# Altium footprint library C2Sv0.1.PcbLib: 19 footprints (part 1 of 2)
Each footprint in its own frame and in the unit in brackets; x right, y up, seen from the top. Pads: shape width x height; smd on the part's side, far side on the other; paste and mask are expansions set on the pad; w line width, h text height; cw(c..) or ccw(c..) is an arc to the next point about the centre after c.
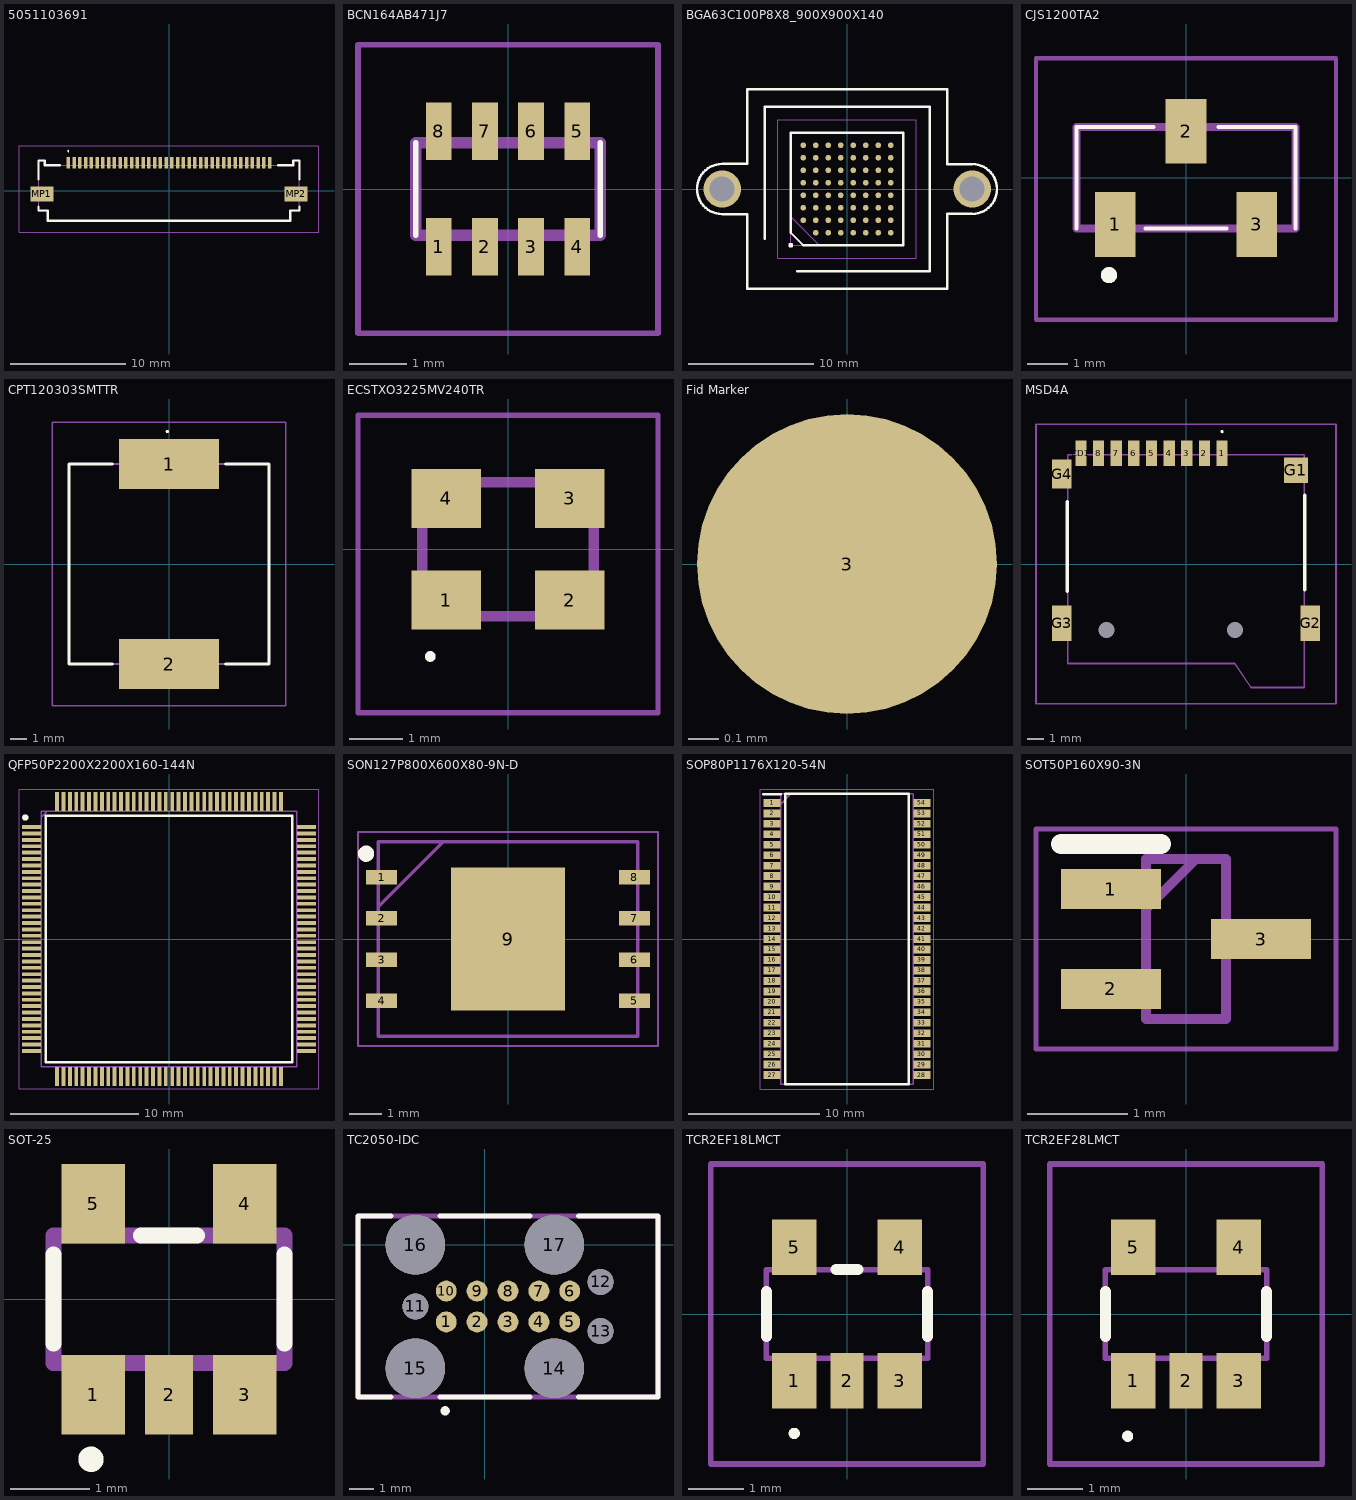
[diagram p0: the footprints below, top view; thin cyan lines are the x and y axes]

## 5051103691 [mm]
pads (38):
  rect 0.3x1 smd mask+0.051: 1(-8.75,2.425) 2(-8.25,2.425) 3(-7.75,2.425) 4(-7.25,2.425) 5(-6.75,2.425) 6(-6.25,2.425) 7(-5.75,2.425) 8(-5.25,2.425) 9(-4.75,2.425) 10(-4.25,2.425) 11(-3.75,2.425) 12(-3.25,2.425) 13(-2.75,2.425) 14(-2.25,2.425) 15(-1.75,2.425) 16(-1.25,2.425) 17(-0.75,2.425) 18(-0.25,2.425) 19(0.25,2.425) 20(0.75,2.425) 21(1.25,2.425) 22(1.75,2.425) 23(2.25,2.425) 24(2.75,2.425) 25(3.25,2.425) 26(3.75,2.425) 27(4.25,2.425) 28(4.75,2.425) 29(5.25,2.425) 30(5.75,2.425) 31(6.25,2.425) 32(6.75,2.425) 33(7.25,2.425) 34(7.75,2.425) 35(8.25,2.425) 36(8.75,2.425)
  rect 2x1.3 smd: MP1(-11.05,-0.275) MP2(11.05,-0.275)
Top Overlay:
  lines w0.1: -8.75,3.4 ccw(c-8.75,3.45) -8.75,3.5 ccw(c-8.75,3.45) -8.75,3.4
  lines w0.2: -11.35,-1.4 -11.35,-1.725 -10.55,-1.725 -10.55,-2.625 10.55,-2.625 10.55,-1.725 11.35,-1.725 11.35,-1.4 ; -11.35,1 -11.35,2.625 -10.8,2.625 -10.8,2.225 -9.5,2.225 ; 9.5,2.225 10.8,2.225 10.8,2.625 11.35,2.625 11.35,1
Mechanical 13:
  lines w0.1: -11.35,-1.725 -11.35,2.625 -10.8,2.625 -10.8,2.225 10.8,2.225 10.8,2.625 11.35,2.625 11.35,-1.725 10.55,-1.725 10.55,-2.625 0,-2.625 -10.55,-2.625 -10.55,-1.725 -11.35,-1.725
Mechanical 15:
  lines w0.1: -13.05,-3.625 13.05,-3.625 13.05,3.925 -13.05,3.925 -13.05,-3.625
3D body "505110-3691.stp": height 1.9, standoff 0, extent -11.75,-2.65 11.75,2.65

## BCN164AB471J7 [mm]
pads (8):
  rect 0.45x1 smd: 1(-1.2,-1) 2(-0.4,-1) 3(0.4,-1) 4(1.2,-1) 5(1.2,1) 6(0.4,1) 7(-0.4,1) 8(-1.2,1)
Top Overlay:
  lines w0.1: -1.6,-0.8 -1.6,0.8 ; 1.6,-0.8 1.6,0.8
Mechanical 13:
  lines w0.2: -1.6,-0.8 1.6,-0.8 1.6,0.8 -1.6,0.8 -1.6,-0.8
Mechanical 15:
  lines w0.1: -2.6,-2.5 2.6,-2.5 2.6,2.5 -2.6,2.5 -2.6,-2.5
3D body "BCN164AB471J7.stp": height 0.7, standoff 0, extent -1.6,-1.455 1.6,1.455

## BGA63C100P8X8_900X900X140 [mm]
pads (63):
  round 0.45 smd: A2(-3.5,-2.5) A3(-3.5,-1.5) A4(-3.5,-0.5) A5(-3.5,0.5) A6(-3.5,1.5) A7(-3.5,2.5) A8(-3.5,3.5) B1(-2.5,-3.5) B2(-2.5,-2.5) B3(-2.5,-1.5) B4(-2.5,-0.5) B5(-2.5,0.5) B6(-2.5,1.5) B7(-2.5,2.5) B8(-2.5,3.5) C1(-1.5,-3.5) C2(-1.5,-2.5) C3(-1.5,-1.5) C4(-1.5,-0.5) C5(-1.5,0.5) C6(-1.5,1.5) C7(-1.5,2.5) C8(-1.5,3.5) D1(-0.5,-3.5) D2(-0.5,-2.5) D3(-0.5,-1.5) D4(-0.5,-0.5) D5(-0.5,0.5) D6(-0.5,1.5) D7(-0.5,2.5) D8(-0.5,3.5) E1(0.5,-3.5) E2(0.5,-2.5) E3(0.5,-1.5) E4(0.5,-0.5) E5(0.5,0.5) E6(0.5,1.5) E7(0.5,2.5) E8(0.5,3.5) F1(1.5,-3.5) F2(1.5,-2.5) F3(1.5,-1.5) F4(1.5,-0.5) F5(1.5,0.5) F6(1.5,1.5) F7(1.5,2.5) F8(1.5,3.5) G1(2.5,-3.5) G2(2.5,-2.5) G3(2.5,-1.5) G4(2.5,-0.5) G5(2.5,0.5) G6(2.5,1.5) G7(2.5,2.5) G8(2.5,3.5) H1(3.5,-3.5) H2(3.5,-2.5) H3(3.5,-1.5) H4(3.5,-0.5) H5(3.5,0.5) H6(3.5,1.5) H7(3.5,2.5) H8(3.5,3.5)
via -10,0 diameter 3 hole 2
via 10,0 diameter 3 hole 2
Top Overlay:
  circle w0.2: c-4.5,-4.5 r0.1
  lines w0.2: -6.6,-4 -6.6,6.6 6.6,6.6 6.6,-6.6 -4,-6.6 ; 8,-2 10,-2 ccw(c10,0) 10,2 8,2 ; 8,-2 8,-2 ; 8,-2 8,-8 -8,-8 -8,-2 -10,-2 cw(c-10,0) -10,2 -8,2 -8,8 8,8 8,2 ; 8,2 8,2 ; -4.5,-3.5 -4.5,4.5 4.5,4.5 4.5,-4.5 -3.5,-4.5 -4.5,-3.5
Mechanical 13:
  lines w0.1: -4.5,-2.23 -2.23,-4.5 ; -4.5,-4.5 -4.5,4.5 4.5,4.5 4.5,-4.5 -4.5,-4.5
Mechanical 15:
  lines w0.05: -5.54,-5.54 -5.54,5.54 5.54,5.54 5.54,-5.54 -5.54,-5.54
3D body "AR0141IRSH00SUEA0-DR.stp": height 1.4, standoff 0, extent -4.5,-4.5 4.5,4.5

## CJS1200TA2 [mm]
pads (3):
  rect 1x1.6 smd: 1(-1.75,-1.15) 2(0,1.15) 3(1.75,-1.15)
Top Overlay:
  lines w0.1: -2.7,-1.25 -2.7,1.25 -0.8,1.25 ; -1,-1.25 1,-1.25 ; 0.8,1.25 2.7,1.25 2.7,-1.25
  lines w0.2: -2,-2.4 cw(c-1.9,-2.4) -1.8,-2.4 cw(c-1.9,-2.4) -2,-2.4
Mechanical 13:
  lines w0.2: -2.7,-1.25 -2.7,1.25 2.7,1.25 2.7,-1.25 -2.7,-1.25
Mechanical 15:
  lines w0.1: -3.7,-3.5 -3.7,2.95 3.7,2.95 3.7,-3.5 -3.7,-3.5
3D body "CJS-1200TA2.stp": height 2.52, standoff 0, extent -2.7,-1.4 2.7,1.4

## CPT120303SMTTR [mm]
pads (2):
  rect 6x3 smd: 1(0,6) 2(0,-6)
Top Overlay:
  lines w0.1: -0.1,7.9 ccw(c-0.1,7.95) -0.1,8 ccw(c-0.1,7.95) -0.1,7.9
  lines w0.2: -3.4,-6 -6,-6 -6,6 -3.4,6 ; 3.4,-6 6,-6 6,6 3.4,6
Mechanical 13:
  lines w0.1: -6,-6 6,-6 6,6 -6,6 -6,-6
Mechanical 15:
  lines w0.1: -7,-8.5 7,-8.5 7,8.5 -7,8.5 -7,-8.5
3D body "CPT-1203-03-SMT-TR.stp": height 3.51, standoff 0, extent -6.25,-6.26 6.25,6.26

## ECSTXO3225MV240TR [mm]
pads (4):
  rect 1.3x1.1 smd: 1(-1.15,-0.95) 2(1.15,-0.95) 3(1.15,0.95) 4(-1.15,0.95)
Top Overlay:
  lines w0.1: -1.5,-2 ccw(c-1.45,-2) -1.4,-2 ccw(c-1.45,-2) -1.5,-2
Mechanical 13:
  lines w0.2: -1.6,-1.25 1.6,-1.25 1.6,1.25 -1.6,1.25 -1.6,-1.25
Mechanical 15:
  lines w0.1: -2.8,-3.05 2.8,-3.05 2.8,2.5 -2.8,2.5 -2.8,-3.05
3D body "ECS-TXO-3225MV-240-TR.stp": height 1.3, standoff 0, extent -1.69,-1.39 1.69,1.39

## Fid Marker [mm]
pads (1):
  round 1 smd mask+0.5: 3(0,0)

## MSD4A [mm]
pads (15):
  rect 0.7x1.6 smd: 1(2.25,6.9) 2(1.15,6.9) 3(0.05,6.9) 4(-1.05,6.9) 5(-2.15,6.9) 6(-3.25,6.9) 7(-4.35,6.9) 8(-5.45,6.9) CD1(-6.55,6.9)
  rect 1.5x1.6 smd: G1(6.85,5.85)
  rect 1.2x2.2 smd: G2(7.75,-3.7) G3(-7.75,-3.7)
  rect 1.2x1.8 smd: G4(-7.75,5.6)
  round 0.5 hole 1 unplated: MH1(3.05,-4.1) MH2(-4.95,-4.1)
Top Overlay:
  lines w0.1: 2.25,8.2 cw(c2.25,8.25) 2.25,8.3 cw(c2.25,8.25) 2.25,8.2
  lines w0.2: -7.4,-1.7 -7.4,3.9 ; 7.4,-1.6 7.4,4.3
Mechanical 13:
  lines w0.1: -7.375,-6.2 3.05,-6.2 4.05,-7.7 7.375,-7.7 7.375,6.8 3.05,6.8 -7.375,6.8 -7.375,-6.2
Mechanical 15:
  lines w0.1: -9.35,-8.7 -9.35,8.7 9.35,8.7 9.35,-8.7 -9.35,-8.7
3D body "MSD-4-A.stp": height 1.9, standoff -0.5, extent -8.16,-7.79 7.99,7.26

## QFP50P2200X2200X160-144N [mm]
pads (144):
  rect 1.475x0.3 smd: 1(-10.738,8.75) 2(-10.738,8.25) 3(-10.738,7.75) 4(-10.738,7.25) 5(-10.738,6.75) 6(-10.738,6.25) 7(-10.738,5.75) 8(-10.738,5.25) 9(-10.738,4.75) 10(-10.738,4.25) 11(-10.738,3.75) 12(-10.738,3.25) 13(-10.738,2.75) 14(-10.738,2.25) 15(-10.738,1.75) 16(-10.738,1.25) 17(-10.738,0.75) 18(-10.738,0.25) 19(-10.738,-0.25) 20(-10.738,-0.75) 21(-10.738,-1.25) 22(-10.738,-1.75) 23(-10.738,-2.25) 24(-10.738,-2.75) 25(-10.738,-3.25) 26(-10.738,-3.75) 27(-10.738,-4.25) 28(-10.738,-4.75) 29(-10.738,-5.25) 30(-10.738,-5.75) 31(-10.738,-6.25) 32(-10.738,-6.75) 33(-10.738,-7.25) 34(-10.738,-7.75) 35(-10.738,-8.25) 36(-10.738,-8.75) 73(10.738,-8.75) 74(10.738,-8.25) 75(10.738,-7.75) 76(10.738,-7.25) 77(10.738,-6.75) 78(10.738,-6.25) 79(10.738,-5.75) 80(10.738,-5.25) 81(10.738,-4.75) 82(10.738,-4.25) 83(10.738,-3.75) 84(10.738,-3.25) 85(10.738,-2.75) 86(10.738,-2.25) 87(10.738,-1.75) 88(10.738,-1.25) 89(10.738,-0.75) 90(10.738,-0.25) 91(10.738,0.25) 92(10.738,0.75) 93(10.738,1.25) 94(10.738,1.75) 95(10.738,2.25) 96(10.738,2.75) 97(10.738,3.25) 98(10.738,3.75) 99(10.738,4.25) 100(10.738,4.75) 101(10.738,5.25) 102(10.738,5.75) 103(10.738,6.25) 104(10.738,6.75) 105(10.738,7.25) 106(10.738,7.75) 107(10.738,8.25) 108(10.738,8.75)
  rect 0.3x1.475 smd: 37(-8.75,-10.738) 38(-8.25,-10.738) 39(-7.75,-10.738) 40(-7.25,-10.738) 41(-6.75,-10.738) 42(-6.25,-10.738) 43(-5.75,-10.738) 44(-5.25,-10.738) 45(-4.75,-10.738) 46(-4.25,-10.738) 47(-3.75,-10.738) 48(-3.25,-10.738) 49(-2.75,-10.738) 50(-2.25,-10.738) 51(-1.75,-10.738) 52(-1.25,-10.738) 53(-0.75,-10.738) 54(-0.25,-10.738) 55(0.25,-10.738) 56(0.75,-10.738) 57(1.25,-10.738) 58(1.75,-10.738) 59(2.25,-10.738) 60(2.75,-10.738) 61(3.25,-10.738) 62(3.75,-10.738) 63(4.25,-10.738) 64(4.75,-10.738) 65(5.25,-10.738) 66(5.75,-10.738) 67(6.25,-10.738) 68(6.75,-10.738) 69(7.25,-10.738) 70(7.75,-10.738) 71(8.25,-10.738) 72(8.75,-10.738) 109(8.75,10.738) 110(8.25,10.738) 111(7.75,10.738) 112(7.25,10.738) 113(6.75,10.738) 114(6.25,10.738) 115(5.75,10.738) 116(5.25,10.738) 117(4.75,10.738) 118(4.25,10.738) 119(3.75,10.738) 120(3.25,10.738) 121(2.75,10.738) 122(2.25,10.738) 123(1.75,10.738) 124(1.25,10.738) 125(0.75,10.738) 126(0.25,10.738) 127(-0.25,10.738) 128(-0.75,10.738) 129(-1.25,10.738) 130(-1.75,10.738) 131(-2.25,10.738) 132(-2.75,10.738) 133(-3.25,10.738) 134(-3.75,10.738) 135(-4.25,10.738) 136(-4.75,10.738) 137(-5.25,10.738) 138(-5.75,10.738) 139(-6.25,10.738) 140(-6.75,10.738) 141(-7.25,10.738) 142(-7.75,10.738) 143(-8.25,10.738) 144(-8.75,10.738)
Top Overlay:
  circle w0.25: c-11.225,9.5 r0.125
  lines w0.2: -9.65,-9.65 -9.65,9.65 9.65,9.65 9.65,-9.65 -9.65,-9.65
Mechanical 13:
  lines w0.1: -10,9.5 -9.5,10 ; -10,-10 -10,10 10,10 10,-10 -10,-10
Mechanical 15:
  lines w0.05: -11.725,-11.725 -11.725,11.725 11.725,11.725 11.725,-11.725 -11.725,-11.725
3D body "STM32U5G9ZJT6Q.stp": height 1.6, standoff 0, extent -10.948,-10.948 10.948,10.948

## SON127P800X600X80-9N-D [mm]
pads (9):
  rect 0.95x0.45 smd: 1(-3.9,1.905) 2(-3.9,0.635) 3(-3.9,-0.635) 4(-3.9,-1.905) 5(3.9,-1.905) 6(3.9,-0.635) 7(3.9,0.635) 8(3.9,1.905)
  rect 3.5x4.4 smd: 9(0,0)
Top Overlay:
  circle w0.25: c-4.375,2.63 r0.125
Mechanical 13:
  lines w0.1: -4,1 -2,3 ; -4,-3 4,-3 4,3 -4,3 -4,-3
Mechanical 15:
  lines w0.05: -4.625,-3.3 4.625,-3.3 4.625,3.3 -4.625,3.3 -4.625,-3.3
3D body "AT25SF2561C-MWUB-T.stp": height 0.8, standoff 0, extent -4.05,-3 4.05,3

## SOP80P1176X120-54N [mm]
pads (54):
  rect 1.295x0.6 smd: 1(-5.728,10.4) 2(-5.728,9.6) 3(-5.728,8.8) 4(-5.728,8) 5(-5.728,7.2) 6(-5.728,6.4) 7(-5.728,5.6) 8(-5.728,4.8) 9(-5.728,4) 10(-5.728,3.2) 11(-5.728,2.4) 12(-5.728,1.6) 13(-5.728,0.8) 14(-5.728,0) 15(-5.728,-0.8) 16(-5.728,-1.6) 17(-5.728,-2.4) 18(-5.728,-3.2) 19(-5.728,-4) 20(-5.728,-4.8) 21(-5.728,-5.6) 22(-5.728,-6.4) 23(-5.728,-7.2) 24(-5.728,-8) 25(-5.728,-8.8) 26(-5.728,-9.6) 27(-5.728,-10.4) 28(5.728,-10.4) 29(5.728,-9.6) 30(5.728,-8.8) 31(5.728,-8) 32(5.728,-7.2) 33(5.728,-6.4) 34(5.728,-5.6) 35(5.728,-4.8) 36(5.728,-4) 37(5.728,-3.2) 38(5.728,-2.4) 39(5.728,-1.6) 40(5.728,-0.8) 41(5.728,0) 42(5.728,0.8) 43(5.728,1.6) 44(5.728,2.4) 45(5.728,3.2) 46(5.728,4) 47(5.728,4.8) 48(5.728,5.6) 49(5.728,6.4) 50(5.728,7.2) 51(5.728,8) 52(5.728,8.8) 53(5.728,9.6) 54(5.728,10.4)
Top Overlay:
  lines w0.2: -6.375,11.05 -5.08,11.05 ; -4.73,-11.11 4.73,-11.11 4.73,11.11 -4.73,11.11 -4.73,-11.11
Mechanical 13:
  lines w0.1: -5.08,10.31 -4.28,11.11 ; -5.08,-11.11 5.08,-11.11 5.08,11.11 -5.08,11.11 -5.08,-11.11
Mechanical 15:
  lines w0.05: -6.625,-11.46 6.625,-11.46 6.625,11.46 -6.625,11.46 -6.625,-11.46
3D body "IS42S16160J-6TLI.stp": height 1.2, standoff 0, extent -5.88,-11.11 5.88,11.11

## SOT50P160X90-3N [mm]
pads (3):
  rect 1x0.4 smd: 1(-0.75,0.5) 2(-0.75,-0.5) 3(0.75,0)
Top Overlay:
  lines w0.2: -1.25,0.95 -0.25,0.95
Mechanical 13:
  lines w0.1: -0.4,0.3 0.1,0.8 ; -0.4,-0.8 -0.4,0.8 0.4,0.8 0.4,-0.8 -0.4,-0.8
Mechanical 15:
  lines w0.05: -1.5,-1.1 -1.5,1.1 1.5,1.1 1.5,-1.1 -1.5,-1.1
3D body "DMG1012T.stp": height 0.9, standoff 0, extent -0.8,-0.8 0.8,0.8

## SOT-25 [mm]
pads (5):
  rect 0.8x1 smd: 1(-0.95,-1.2) 3(0.95,-1.2) 4(0.95,1.2) 5(-0.95,1.2)
  rect 0.6x1 smd: 2(0,-1.2)
Top Overlay:
  circle w0.2: c-0.981,-2.012 r0.059
  lines w0.2: -1.45,-0.56 -1.45,0.563 ; -0.35,0.799 0.35,0.799 ; 1.45,-0.56 1.45,0.563
Mechanical 13:
  lines w0.2: -1.45,-0.8 -1.45,0.8 1.45,0.8 1.45,-0.8 -1.45,-0.8
3D body "TCR2EF33,LM_CT.stp": height 1.4, standoff 0, extent -1.45,-1.44 1.45,1.36

## TC2050-IDC [mil]
pads (17):
  round 34 smd: 1(-62.5,-125) 2(-12.5,-125) 3(37.5,-125) 4(87.5,-125) 5(137.5,-125) 6(137.5,-75) 7(87.5,-75) 8(37.5,-75) 9(-12.5,-75) 10(-62.5,-75)
  round 42 hole 42 unplated: 11(-112.5,-100) 12(187.5,-60.04) 13(187.5,-139.96)
  round 96.5 hole 96.5 unplated: 14(112.5,-200) 15(-112.5,-200) 16(-112.5,0) 17(112.5,0)
Top Overlay:
  circle w7.87: c-64.35,-268.98 r3.58
  lines w7.87: -151.75,-246.75 -205.41,-246.75 -205.41,46.75 -151.75,46.75 ; -72.93,-246.75 72.93,-246.75 ; -72.93,46.75 72.93,46.75 ; 151.59,-246.75 280.41,-246.75 280.41,46.75 151.59,46.75
Mechanical 13:
  lines w7.87: -205.41,-246.75 280.41,-246.75 280.41,46.75 -205.41,46.75 -205.41,-246.75
3D body "TC2050-IDC.stp": height 8190.7, standoff -17.96, extent -304.57,-260.24 379.68,41.65

## TCR2EF18LMCT [mm]
pads (5):
  rect 0.8x1 smd: 1(-0.95,-1.2) 3(0.95,-1.2) 4(0.95,1.2) 5(-0.95,1.2)
  rect 0.6x1 smd: 2(0,-1.2)
Top Overlay:
  lines w0.1: -0.95,-2.2 cw(c-0.95,-2.15) -0.95,-2.1 cw(c-0.95,-2.15) -0.95,-2.2
  lines w0.2: -1.45,-0.4 -1.45,0.4 ; -0.2,0.8 0.2,0.8 ; 1.45,-0.4 1.45,0.4
Mechanical 13:
  lines w0.1: -1.45,-0.8 1.45,-0.8 1.45,0.8 -1.45,0.8 -1.45,-0.8
Mechanical 15:
  lines w0.1: -2.45,-2.7 2.45,-2.7 2.45,2.7 -2.45,2.7 -2.45,-2.7
3D body "TCR2EF18,LM_CT.stp": height 1.5, standoff 0, extent -1.45,-0.8 1.45,0.8

## TCR2EF28LMCT [mm]
pads (5):
  rect 0.8x1 smd: 1(-0.95,-1.2) 3(0.95,-1.2) 4(0.95,1.2) 5(-0.95,1.2)
  rect 0.6x1 smd: 2(0,-1.2)
Top Overlay:
  lines w0.1: -1.1,-2.2 cw(c-1.05,-2.2) -1,-2.2 cw(c-1.05,-2.2) -1.1,-2.2
  lines w0.2: -1.45,-0.4 -1.45,0.4 ; 1.45,-0.4 1.45,0.4
Mechanical 13:
  lines w0.1: -1.45,-0.8 1.45,-0.8 1.45,0.8 -1.45,0.8 -1.45,-0.8
Mechanical 15:
  lines w0.1: -2.45,-2.7 2.45,-2.7 2.45,2.7 -2.45,2.7 -2.45,-2.7
3D body "TCR2EF28,LM_CT.stp": height 1.5, standoff 0, extent -1.45,-0.8 1.45,0.8